# EAGLE library part HV9931LG-G (library IC_Power-Management)
HV9931 Unity Power Factor LED Lamp Driver Datasheet <http://ww1.microchip.com/downloads/en/DeviceDoc/hv9931.pdf>
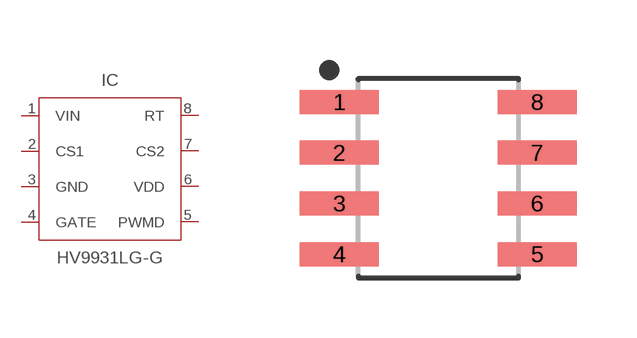
[diagram p15: symbol with the pads of SOIC127P600X175-8N; footprint SOIC127P600X175-8N]

Designator prefix IC

## HV9931LG-GLG (CATEGORY: IC_Power-Management; MANUFACTURER: Microchip; MPN: HV9931LG-G; OPERATING_TEMP: -40 to +85 °C; PART_STATUS: Active; ROHS_COMPLIANT: RoHS3 Compliant; SUB-CATEGORY: Driver; THERMALLOSS: 0.63W; VALUE: HV9931LG)  [SOIC127P600X175-8N]
1  VIN  pwr
2  CS1
3  GND  pwr
4  GATE  out
5  PWMD
6  VDD  pwr
7  CS2
8  RT

## Footprint SOIC127P600X175-8N (pad centres in mm)
8-SOIC, 1.27 mm pitch, 6.00 mm span, 4.90 X 3.90 X 1.75 mm body 8-pin SOIC package with 1.27 mm pitch, 6.00 mm span with body size 4.90 X 3.90 X 1.75 mm
smd 1.968 x 0.599: 1 -2.473,1.905; 2 -2.473,0.635; 3 -2.473,-0.635; 4 -2.473,-1.905; 5 2.473,-1.905; 6 2.473,-0.635; 7 2.473,0.635; 8 2.473,1.905